# Altium schematic symbol library CSD87312Q3E.Schlib: 1 symbol
Pins are listed as number, name and electrical type; pins without a type are passive.

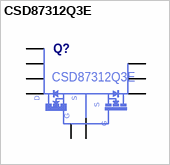
[diagram p0: symbol CSD87312Q3E]

## CSD87312Q3E
designator Q?
Manufacturer Part Number: CSD87312Q3E
pins: 1 D1, 2 D1, 3 D1, 4 D1, 5 G, 6 D2, 7 D2, 8 D2, 9 S
text: D